# EAGLE library part 7281-8PG (library platypus)
Mini-Con-X 8-position Panel Mount connector #20 gold plated P/C tail .187 style Pins; standard panel mount backshell
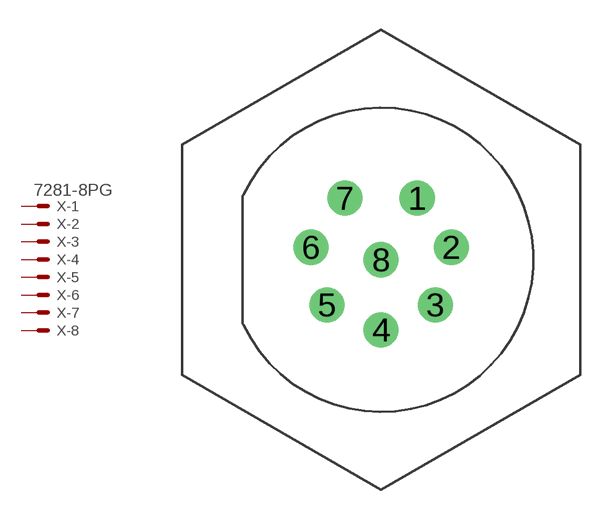
[diagram p0: symbol with the pads of 7281-8PG; footprint 7281-8PG]

Designator prefix X; gates -1=MV -2=M -3=M -4=M -5=M -6=M -7=M -8=M

## 7281-8PG-300 (MF: Conxall; MPN: 7281-8PG-300), 7281-8PG-3ES (MF: Conxall; MPN: 7281-8PG-3ES)  [7281-8PG]
1  -1:S  pas
2  -2:S  pas
3  -3:S  pas
4  -4:S  pas
5  -5:S  pas
6  -6:S  pas
7  -7:S  pas
8  -8:S  pas

## Footprint 7281-8PG (pad centres in mm)
Mini-Con-X 8-position Panel Mount connector; #20 gold plated P/C tail .187 style Pins; standard panel mount backshell
drill 1.016 pad 1.778: 1 1.829,3.124; 2 3.556,0.635; 3 2.743,-2.286; 4 0,-3.556; 5 -2.743,-2.286; 6 -3.556,0.635; 7 -1.829,3.124; 8 0,0